# Altium footprint library SOP65P650X120-20N.PcbLib: 1 footprints
Each footprint in its own frame and in the unit in brackets; x right, y up, seen from the top. Pads: shape width x height; smd on the part's side, far side on the other; paste and mask are expansions set on the pad; w line width, h text height; cw(c..) or ccw(c..) is an arc to the next point about the centre after c.
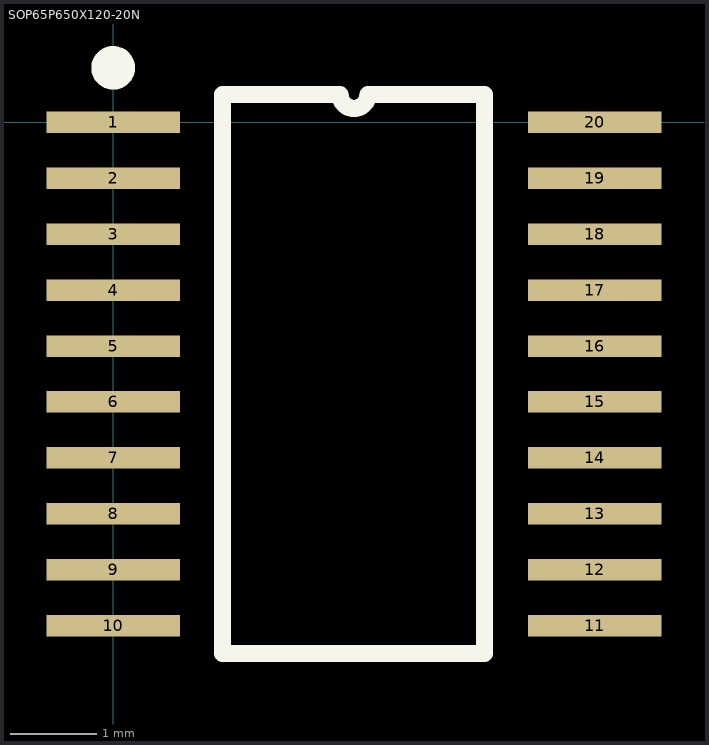
[diagram p0: the footprint, top view; thin cyan lines are the x and y axes]

## SOP65P650X120-20N [mm] "SOP + Pitch P + Lead Span Nominal X Height - #Pins"
height 1.2
pads (20):
  rect 1.55x0.25 smd: 1(0,0) 2(0,-0.65) 3(0,-1.3) 4(0,-1.95) 5(0,-2.6) 6(0,-3.25) 7(0,-3.9) 8(0,-4.55) 9(0,-5.2) 10(0,-5.85) 11(5.6,-5.85) 12(5.6,-5.2) 13(5.6,-4.55) 14(5.6,-3.9) 15(5.6,-3.25) 16(5.6,-2.6) 17(5.6,-1.95) 18(5.6,-1.3) 19(5.6,-0.65) 20(5.6,0)
Top Overlay:
  circle w0.254: c0,0.635 r0.127
  lines w0.2: 1.27,-6.175 4.318,-6.175 4.318,0.325 2.962,0.325 cw(c2.8,0.325) 2.638,0.325 1.27,0.325 1.27,-6.175
3D body "PW20.stp": height 1.2, standoff 0, extent -0.508,-6.223 6.096,0.381